# Altium footprint library WCAP-ATG5_5X11(DXL).PcbLib: 1 footprints
Each footprint in its own frame and in the unit in brackets; x right, y up, seen from the top. Pads: shape width x height; smd on the part's side, far side on the other; paste and mask are expansions set on the pad; w line width, h text height; cw(c..) or ccw(c..) is an arc to the next point about the centre after c.
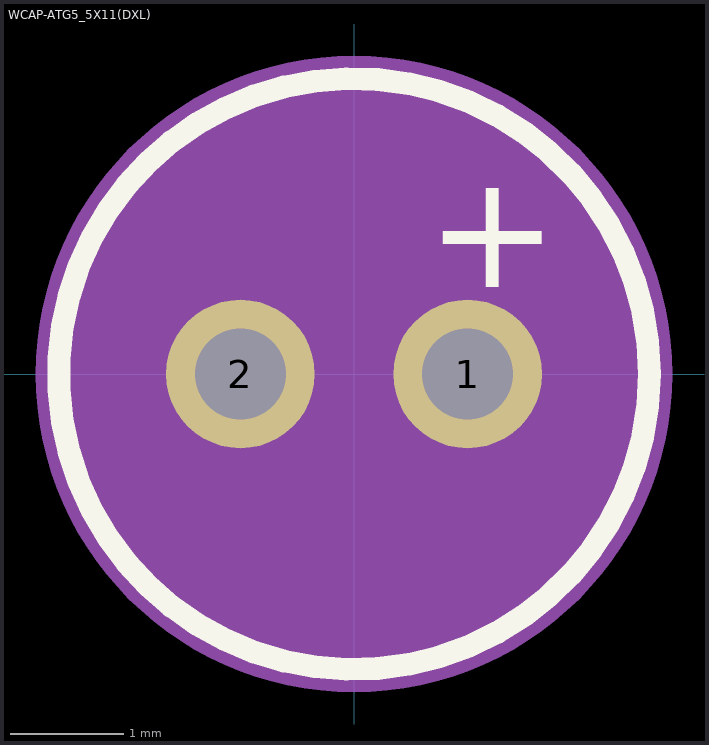
[diagram p0: the footprint, top view; thin cyan lines are the x and y axes]

## WCAP-ATG5_5X11(DXL) [mm]
pads (2):
  round 1.308 hole 0.8 mask+0.102: 1(1,0) 2(-1,0)
Top Overlay:
  circle w0.2: c0,0 r2.6
  text "+" at 0.635,0.762 h1.02
Assembly Top:
  circle w0.1: c0,0 r2.5
Courtyard Top:
  region: 0.147,2.796 0.293,2.785 0.438,2.766 0.582,2.739 0.725,2.705 0.865,2.663 1.003,2.614 1.139,2.558 1.271,2.495 1.4,2.425 1.525,2.348 1.646,2.265 1.762,2.176 1.874,2.081 1.98,1.98 2.081,1.874 2.176,1.762 2.265,1.646 2.348,1.525 2.425,1.4 2.495,1.271 2.558,1.139 2.614,1.003 2.663,0.865 2.705,0.725 2.739,0.582 2.766,0.438 2.785,0.293 2.796,0.147 2.8,0 2.796,-0.147 2.785,-0.293 2.766,-0.438 2.739,-0.582 2.705,-0.725 2.663,-0.865 2.614,-1.003 2.558,-1.139 2.495,-1.271 2.425,-1.4 2.348,-1.525 2.265,-1.646 2.176,-1.762 2.081,-1.874 1.98,-1.98 1.874,-2.081 1.762,-2.176 1.646,-2.265 1.525,-2.348 1.4,-2.425 1.271,-2.495 1.139,-2.558 1.003,-2.614 0.865,-2.663 0.725,-2.705 0.582,-2.739 0.438,-2.766 0.293,-2.785 0.147,-2.796 0,-2.8 -0.147,-2.796 -0.293,-2.785 -0.438,-2.766 -0.582,-2.739 -0.725,-2.705 -0.865,-2.663 -1.003,-2.614 -1.139,-2.558 -1.271,-2.495 -1.4,-2.425 -1.525,-2.348 -1.646,-2.265 -1.762,-2.176 -1.874,-2.081 -1.98,-1.98 -2.081,-1.874 -2.176,-1.762 -2.265,-1.646 -2.348,-1.525 -2.425,-1.4 -2.495,-1.271 -2.558,-1.139 -2.614,-1.003 -2.663,-0.865 -2.705,-0.725 -2.739,-0.582 -2.766,-0.438 -2.785,-0.293 -2.796,-0.147 -2.8,0 -2.796,0.147 -2.785,0.293 -2.766,0.438 -2.739,0.582 -2.705,0.725 -2.663,0.865 -2.614,1.003 -2.558,1.139 -2.495,1.271 -2.425,1.4 -2.348,1.525 -2.265,1.646 -2.176,1.762 -2.081,1.874 -1.98,1.98 -1.874,2.081 -1.762,2.176 -1.646,2.265 -1.525,2.348 -1.4,2.425 -1.271,2.495 -1.139,2.558 -1.003,2.614 -0.865,2.663 -0.725,2.705 -0.582,2.739 -0.438,2.766 -0.293,2.785 -0.147,2.796 0,2.8
3D body "Download_STP_860020x720xx+%28rev1%29.stp": height 11.01, standoff -19.99, extent -2.49,-2.5 2.5,2.499